# Altium footprint library AA_holder.PcbLib: 1 footprints
Each footprint in its own frame and in the unit in brackets; x right, y up, seen from the top. Pads: shape width x height; smd on the part's side, far side on the other; paste and mask are expansions set on the pad; w line width, h text height; cw(c..) or ccw(c..) is an arc to the next point about the centre after c.
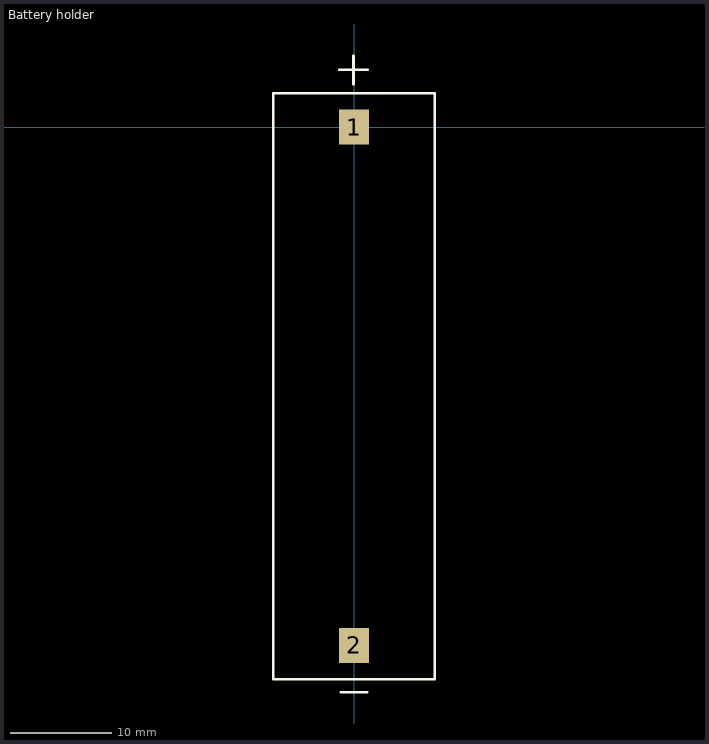
[diagram p0: the footprint, top view; thin cyan lines are the x and y axes]

## Battery holder [mm]
pads (2):
  rect 3x3.5 smd: 1(0,0) 2(0,-51.3)
Top Overlay:
  lines w0.254: -0.05,4.225 -0.05,7.05 ; -0.05,5.638 -1.45,5.65 1.375,5.65 ; 0,-55.925 -1.325,-55.925 1.3,-55.925 ; -8,-54.65 8,-54.65 8,3.35 -8,3.35 -8,-54.65
3D body "BH_full.x_t": height 14.34, standoff -0.01, extent -7,-53.6 7,2.3